# Altium schematic symbol library USB-B-S-X-X-TH.SchLib: 1 symbol
Pins are listed as number, name and electrical type; pins without a type are passive.

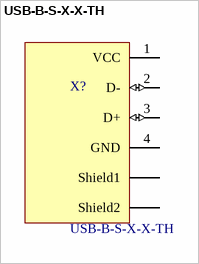
[diagram p0: symbol USB-B-S-X-X-TH]

## USB-B-S-X-X-TH
designator X?
USB-B (USB TYPE-B) USB 2.0 Receptacle Connector 4 Position Through Hole, Right Angle; Потребление, Вт: 0; Назначение: USB соединитель; MP: USB-B-S-F-B-TH; Наименование: USB-B; Availability: Bad; BuyPart: https://www.snapeda.com/parts/USB-B-S-F-B-TH/Samtec%20Inc./view-part/226211/?ref=eda; Toby_UK-Purchase-URL: https://snapeda.com/shop?store=Toby+UK&id=226211; SnapEDA_Link: https://www.snapeda.com/parts/USB-B-S-F-B-TH/Samtec%20Inc./view-part/226211/?ref=snap; Value: *
footprint *SAMTEC_USB-B-S-X-X-TH_USB-B-S-X-X-TH(Primary)
pins: 1 VCC (power), 2 D- (io), 3 D+ (io), 4 GND (power), S1 Shield1 (power), S2 Shield2 (power)